# EAGLE library part XR-2135A (library exar)
Bell/CCITT type data BUFFER
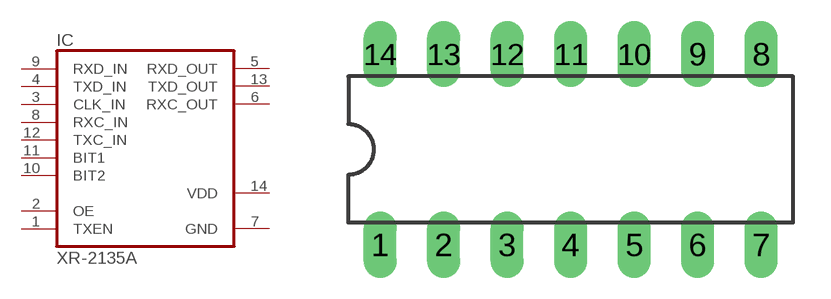
[diagram p14: symbol with the pads of DIL14; footprint DIL14]

Designator prefix IC

## XR-2135A (OC_FARNELL: unknown; OC_NEWARK: unknown)  [DIL14]
1  TXEN  in
2  OE  in
3  CLK_IN  in
4  TXD_IN  in
5  RXD_OUT  out
6  RXC_OUT  out
7  GND  pwr
8  RXC_IN  in
9  RXD_IN  in
10  BIT2  in
11  BIT1  in
12  TXC_IN  in
13  TXD_OUT  out
14  VDD  pwr

## Footprint DIL14 (pad centres in mm)
Dual In Line Package
drill 0.813 long: 1 -7.62,-3.81; 2 -5.08,-3.81; 3 -2.54,-3.81; 4 0,-3.81; 5 2.54,-3.81; 6 5.08,-3.81; 7 7.62,-3.81; 8 7.62,3.81; 9 5.08,3.81; 10 2.54,3.81; 11 0,3.81; 12 -2.54,3.81; 13 -5.08,3.81; 14 -7.62,3.81